# Altium schematic symbol library con-molex-mini-fit.SCHLIB: 168 symbols (part 2 of 4)
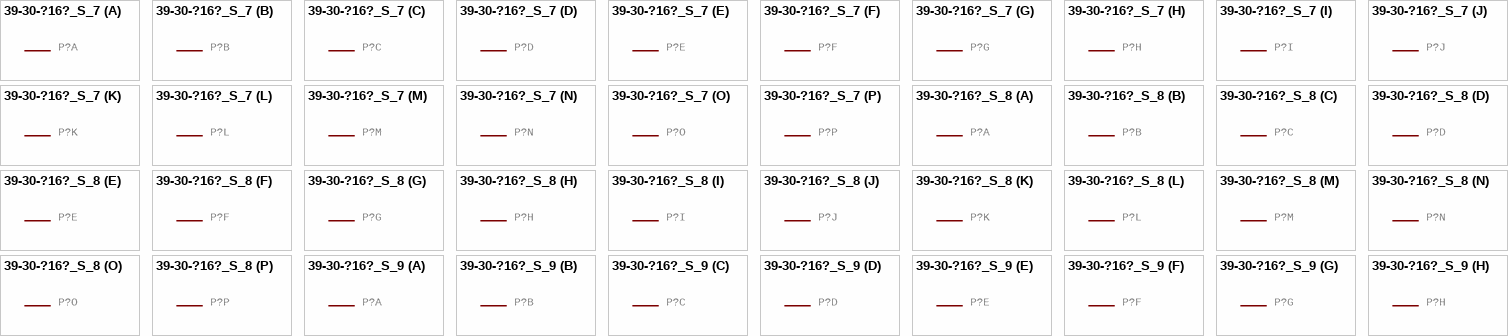
[diagram p66: symbols 39-30-?16?_S_7 to 39-30-?16?_S_9]

## 39-30-?16?_S_7
designator P?, comment HEADER  (value not drawn)
GateName_1: -1; SymbolName_1: P-NV; GateName_2: -2; SymbolName_2: P-N; GateName_3: -3; GateName_4: -4; GateName_5: -5; GateName_6: -6; GateName_7: -7; GateName_8: -8; GateName_9: -9; GateName_10: -10; GateName_11: -11; GateName_12: -12; GateName_13: -13; GateName_14: -14; GateName_15: -15; GateName_16: -16; DeviceSetName: 39-30-?16?_S; SymbolName_3: P-N; SymbolName_4: P-N; SymbolName_5: P-N; SymbolName_6: P-N; SymbolName_7: P-N; SymbolName_8: P-N; SymbolName_9: P-N; SymbolName_10: P-N; SymbolName_11: P-N; SymbolName_12: P-N; SymbolName_13: P-N; SymbolName_14: P-N; SymbolName_15: P-N; SymbolName_16: P-N; LibraryName: con-molex-mini-fit; Package: 39-30-?16?
footprint 39-30-?16?
part A pins: 1 P
part B pins: 2 P
part C pins: 3 P
part D pins: 4 P
part E pins: 5 P
part F pins: 6 P
part G pins: 7 P
part H pins: 8 P
part I pins: 9 P
part J pins: 10 P
part K pins: 11 P
part L pins: 12 P
part M pins: 13 P
part N pins: 14 P
part O pins: 15 P
part P pins: 16 P

## 39-30-?16?_S_8
designator P?, comment HEADER  (value not drawn)
GateName_1: -1; SymbolName_1: P-NV; GateName_2: -2; SymbolName_2: P-N; GateName_3: -3; GateName_4: -4; GateName_5: -5; GateName_6: -6; GateName_7: -7; GateName_8: -8; GateName_9: -9; GateName_10: -10; GateName_11: -11; GateName_12: -12; GateName_13: -13; GateName_14: -14; GateName_15: -15; GateName_16: -16; DeviceSetName: 39-30-?16?_S; SymbolName_3: P-N; SymbolName_4: P-N; SymbolName_5: P-N; SymbolName_6: P-N; SymbolName_7: P-N; SymbolName_8: P-N; SymbolName_9: P-N; SymbolName_10: P-N; SymbolName_11: P-N; SymbolName_12: P-N; SymbolName_13: P-N; SymbolName_14: P-N; SymbolName_15: P-N; SymbolName_16: P-N; LibraryName: con-molex-mini-fit; Package: 39-30-?16?
footprint 39-30-?16?
part A pins: 1 P
part B pins: 2 P
part C pins: 3 P
part D pins: 4 P
part E pins: 5 P
part F pins: 6 P
part G pins: 7 P
part H pins: 8 P
part I pins: 9 P
part J pins: 10 P
part K pins: 11 P
part L pins: 12 P
part M pins: 13 P
part N pins: 14 P
part O pins: 15 P
part P pins: 16 P

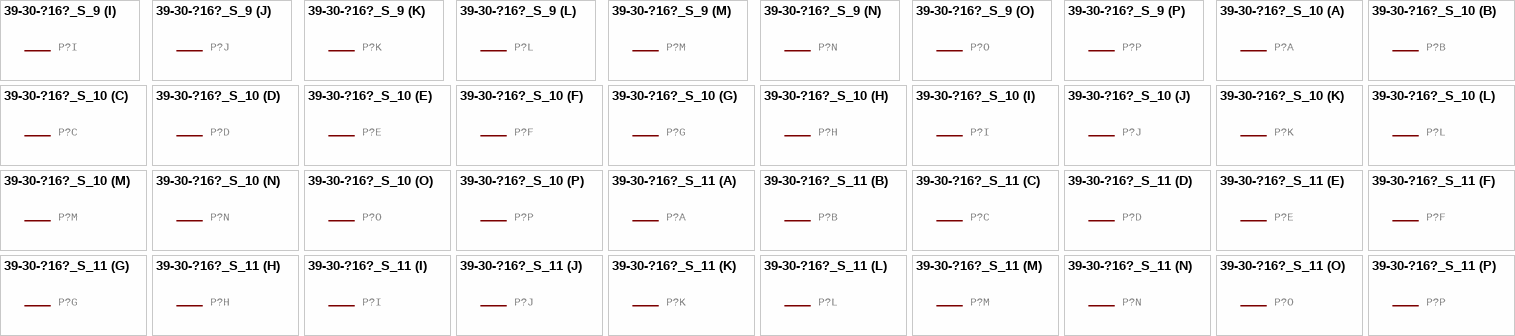
[diagram p18: symbols 39-30-?16?_S_9 to 39-30-?16?_S_11]

## 39-30-?16?_S_9
designator P?, comment HEADER  (value not drawn)
GateName_1: -1; SymbolName_1: P-NV; GateName_2: -2; SymbolName_2: P-N; GateName_3: -3; GateName_4: -4; GateName_5: -5; GateName_6: -6; GateName_7: -7; GateName_8: -8; GateName_9: -9; GateName_10: -10; GateName_11: -11; GateName_12: -12; GateName_13: -13; GateName_14: -14; GateName_15: -15; GateName_16: -16; DeviceSetName: 39-30-?16?_S; SymbolName_3: P-N; SymbolName_4: P-N; SymbolName_5: P-N; SymbolName_6: P-N; SymbolName_7: P-N; SymbolName_8: P-N; SymbolName_9: P-N; SymbolName_10: P-N; SymbolName_11: P-N; SymbolName_12: P-N; SymbolName_13: P-N; SymbolName_14: P-N; SymbolName_15: P-N; SymbolName_16: P-N; LibraryName: con-molex-mini-fit; Package: 39-30-?16?
footprint 39-30-?16?
part A pins: 1 P
part B pins: 2 P
part C pins: 3 P
part D pins: 4 P
part E pins: 5 P
part F pins: 6 P
part G pins: 7 P
part H pins: 8 P
part I pins: 9 P
part J pins: 10 P
part K pins: 11 P
part L pins: 12 P
part M pins: 13 P
part N pins: 14 P
part O pins: 15 P
part P pins: 16 P

## 39-30-?16?_S_10
designator P?, comment HEADER  (value not drawn)
GateName_1: -1; SymbolName_1: P-NV; GateName_2: -2; SymbolName_2: P-N; GateName_3: -3; GateName_4: -4; GateName_5: -5; GateName_6: -6; GateName_7: -7; GateName_8: -8; GateName_9: -9; GateName_10: -10; GateName_11: -11; GateName_12: -12; GateName_13: -13; GateName_14: -14; GateName_15: -15; GateName_16: -16; DeviceSetName: 39-30-?16?_S; SymbolName_3: P-N; SymbolName_4: P-N; SymbolName_5: P-N; SymbolName_6: P-N; SymbolName_7: P-N; SymbolName_8: P-N; SymbolName_9: P-N; SymbolName_10: P-N; SymbolName_11: P-N; SymbolName_12: P-N; SymbolName_13: P-N; SymbolName_14: P-N; SymbolName_15: P-N; SymbolName_16: P-N; LibraryName: con-molex-mini-fit; Package: 39-30-?16?
footprint 39-30-?16?
part A pins: 1 P
part B pins: 2 P
part C pins: 3 P
part D pins: 4 P
part E pins: 5 P
part F pins: 6 P
part G pins: 7 P
part H pins: 8 P
part I pins: 9 P
part J pins: 10 P
part K pins: 11 P
part L pins: 12 P
part M pins: 13 P
part N pins: 14 P
part O pins: 15 P
part P pins: 16 P

## 39-30-?16?_S_11
designator P?, comment HEADER  (value not drawn)
GateName_1: -1; SymbolName_1: P-NV; GateName_2: -2; SymbolName_2: P-N; GateName_3: -3; GateName_4: -4; GateName_5: -5; GateName_6: -6; GateName_7: -7; GateName_8: -8; GateName_9: -9; GateName_10: -10; GateName_11: -11; GateName_12: -12; GateName_13: -13; GateName_14: -14; GateName_15: -15; GateName_16: -16; DeviceSetName: 39-30-?16?_S; SymbolName_3: P-N; SymbolName_4: P-N; SymbolName_5: P-N; SymbolName_6: P-N; SymbolName_7: P-N; SymbolName_8: P-N; SymbolName_9: P-N; SymbolName_10: P-N; SymbolName_11: P-N; SymbolName_12: P-N; SymbolName_13: P-N; SymbolName_14: P-N; SymbolName_15: P-N; SymbolName_16: P-N; LibraryName: con-molex-mini-fit; Package: 39-30-?16?
footprint 39-30-?16?
part A pins: 1 P
part B pins: 2 P
part C pins: 3 P
part D pins: 4 P
part E pins: 5 P
part F pins: 6 P
part G pins: 7 P
part H pins: 8 P
part I pins: 9 P
part J pins: 10 P
part K pins: 11 P
part L pins: 12 P
part M pins: 13 P
part N pins: 14 P
part O pins: 15 P
part P pins: 16 P

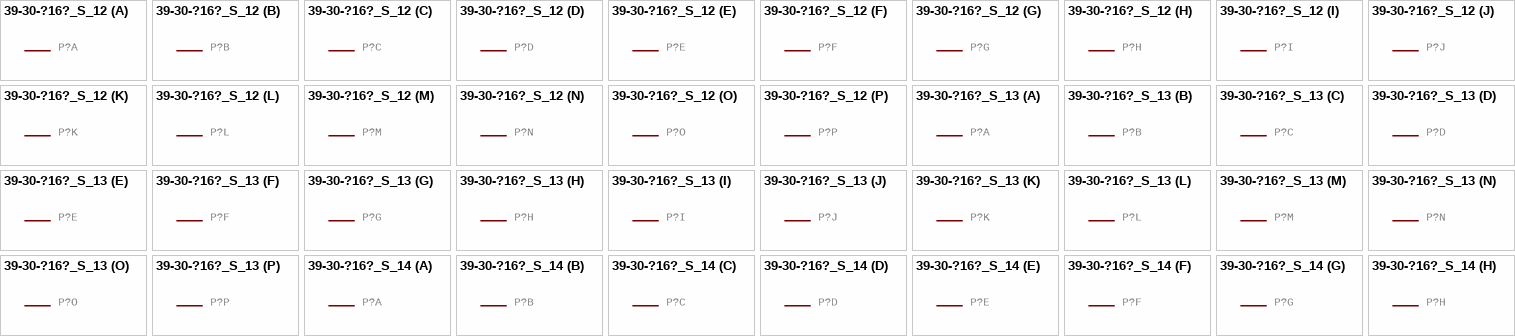
[diagram p19: symbols 39-30-?16?_S_12 to 39-30-?16?_S_14]

## 39-30-?16?_S_12
designator P?, comment HEADER  (value not drawn)
GateName_1: -1; SymbolName_1: P-NV; GateName_2: -2; SymbolName_2: P-N; GateName_3: -3; GateName_4: -4; GateName_5: -5; GateName_6: -6; GateName_7: -7; GateName_8: -8; GateName_9: -9; GateName_10: -10; GateName_11: -11; GateName_12: -12; GateName_13: -13; GateName_14: -14; GateName_15: -15; GateName_16: -16; DeviceSetName: 39-30-?16?_S; SymbolName_3: P-N; SymbolName_4: P-N; SymbolName_5: P-N; SymbolName_6: P-N; SymbolName_7: P-N; SymbolName_8: P-N; SymbolName_9: P-N; SymbolName_10: P-N; SymbolName_11: P-N; SymbolName_12: P-N; SymbolName_13: P-N; SymbolName_14: P-N; SymbolName_15: P-N; SymbolName_16: P-N; LibraryName: con-molex-mini-fit; Package: 39-30-?16?
footprint 39-30-?16?
part A pins: 1 P
part B pins: 2 P
part C pins: 3 P
part D pins: 4 P
part E pins: 5 P
part F pins: 6 P
part G pins: 7 P
part H pins: 8 P
part I pins: 9 P
part J pins: 10 P
part K pins: 11 P
part L pins: 12 P
part M pins: 13 P
part N pins: 14 P
part O pins: 15 P
part P pins: 16 P

## 39-30-?16?_S_13
designator P?, comment HEADER  (value not drawn)
GateName_1: -1; SymbolName_1: P-NV; GateName_2: -2; SymbolName_2: P-N; GateName_3: -3; GateName_4: -4; GateName_5: -5; GateName_6: -6; GateName_7: -7; GateName_8: -8; GateName_9: -9; GateName_10: -10; GateName_11: -11; GateName_12: -12; GateName_13: -13; GateName_14: -14; GateName_15: -15; GateName_16: -16; DeviceSetName: 39-30-?16?_S; SymbolName_3: P-N; SymbolName_4: P-N; SymbolName_5: P-N; SymbolName_6: P-N; SymbolName_7: P-N; SymbolName_8: P-N; SymbolName_9: P-N; SymbolName_10: P-N; SymbolName_11: P-N; SymbolName_12: P-N; SymbolName_13: P-N; SymbolName_14: P-N; SymbolName_15: P-N; SymbolName_16: P-N; LibraryName: con-molex-mini-fit; Package: 39-30-?16?
footprint 39-30-?16?
part A pins: 1 P
part B pins: 2 P
part C pins: 3 P
part D pins: 4 P
part E pins: 5 P
part F pins: 6 P
part G pins: 7 P
part H pins: 8 P
part I pins: 9 P
part J pins: 10 P
part K pins: 11 P
part L pins: 12 P
part M pins: 13 P
part N pins: 14 P
part O pins: 15 P
part P pins: 16 P

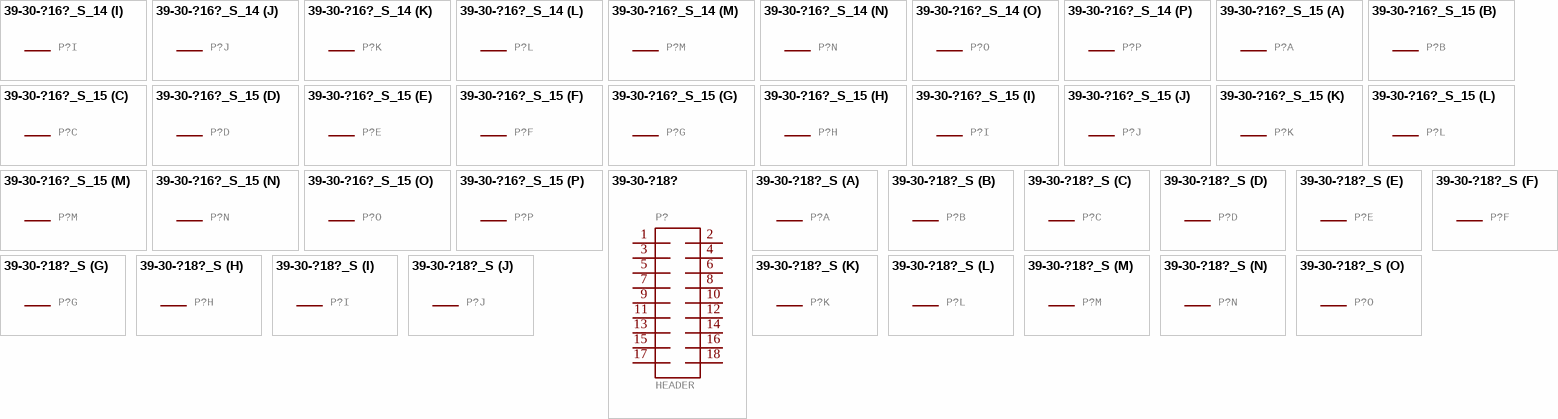
[diagram p20: symbols 39-30-?16?_S_14 to 39-30-?18?_S]

## 39-30-?16?_S_14
designator P?, comment HEADER  (value not drawn)
GateName_1: -1; SymbolName_1: P-NV; GateName_2: -2; SymbolName_2: P-N; GateName_3: -3; GateName_4: -4; GateName_5: -5; GateName_6: -6; GateName_7: -7; GateName_8: -8; GateName_9: -9; GateName_10: -10; GateName_11: -11; GateName_12: -12; GateName_13: -13; GateName_14: -14; GateName_15: -15; GateName_16: -16; DeviceSetName: 39-30-?16?_S; SymbolName_3: P-N; SymbolName_4: P-N; SymbolName_5: P-N; SymbolName_6: P-N; SymbolName_7: P-N; SymbolName_8: P-N; SymbolName_9: P-N; SymbolName_10: P-N; SymbolName_11: P-N; SymbolName_12: P-N; SymbolName_13: P-N; SymbolName_14: P-N; SymbolName_15: P-N; SymbolName_16: P-N; LibraryName: con-molex-mini-fit; Package: 39-30-?16?
footprint 39-30-?16?
part A pins: 1 P
part B pins: 2 P
part C pins: 3 P
part D pins: 4 P
part E pins: 5 P
part F pins: 6 P
part G pins: 7 P
part H pins: 8 P
part I pins: 9 P
part J pins: 10 P
part K pins: 11 P
part L pins: 12 P
part M pins: 13 P
part N pins: 14 P
part O pins: 15 P
part P pins: 16 P

## 39-30-?16?_S_15
designator P?, comment HEADER  (value not drawn)
GateName_1: -1; SymbolName_1: P-NV; GateName_2: -2; SymbolName_2: P-N; GateName_3: -3; GateName_4: -4; GateName_5: -5; GateName_6: -6; GateName_7: -7; GateName_8: -8; GateName_9: -9; GateName_10: -10; GateName_11: -11; GateName_12: -12; GateName_13: -13; GateName_14: -14; GateName_15: -15; GateName_16: -16; DeviceSetName: 39-30-?16?_S; SymbolName_3: P-N; SymbolName_4: P-N; SymbolName_5: P-N; SymbolName_6: P-N; SymbolName_7: P-N; SymbolName_8: P-N; SymbolName_9: P-N; SymbolName_10: P-N; SymbolName_11: P-N; SymbolName_12: P-N; SymbolName_13: P-N; SymbolName_14: P-N; SymbolName_15: P-N; SymbolName_16: P-N; LibraryName: con-molex-mini-fit; Package: 39-30-?16?
footprint 39-30-?16?
part A pins: 1 P
part B pins: 2 P
part C pins: 3 P
part D pins: 4 P
part E pins: 5 P
part F pins: 6 P
part G pins: 7 P
part H pins: 8 P
part I pins: 9 P
part J pins: 10 P
part K pins: 11 P
part L pins: 12 P
part M pins: 13 P
part N pins: 14 P
part O pins: 15 P
part P pins: 16 P

## 39-30-?18?
designator P?, comment HEADER
GateName_1: G$1; SymbolName_1: MA09-2; DeviceSetName: 39-30-?18?; LibraryName: con-molex-mini-fit; Package: 39-30-?18?
footprint 39-30-?18?
pins: 1, 2, 3, 4, 5, 6, 7, 8, 9, 10, 11, 12, 13, 14, 15, 16, 17, 18

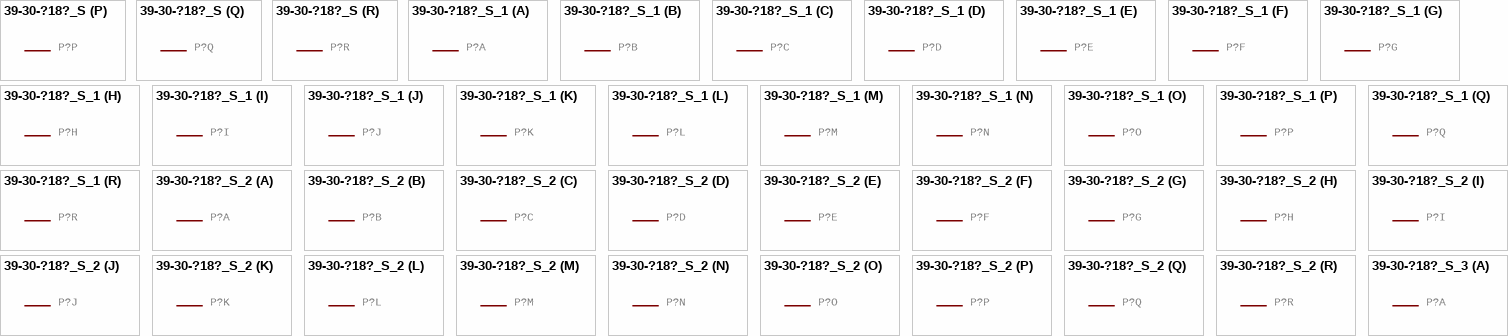
[diagram p21: symbols 39-30-?18?_S to 39-30-?18?_S_3]

## 39-30-?18?_S
designator P?, comment HEADER  (value not drawn)
GateName_1: -1; SymbolName_1: P-NV; GateName_2: -2; SymbolName_2: P-N; GateName_3: -3; GateName_4: -4; GateName_5: -5; GateName_6: -6; GateName_7: -7; GateName_8: -8; GateName_9: -9; GateName_10: -10; GateName_11: -11; GateName_12: -12; GateName_13: -13; GateName_14: -14; GateName_15: -15; GateName_16: -16; GateName_17: -17; GateName_18: -18; DeviceSetName: 39-30-?18?_S; SymbolName_3: P-N; SymbolName_4: P-N; SymbolName_5: P-N; SymbolName_6: P-N; SymbolName_7: P-N; SymbolName_8: P-N; SymbolName_9: P-N; SymbolName_10: P-N; SymbolName_11: P-N; SymbolName_12: P-N; SymbolName_13: P-N; SymbolName_14: P-N; SymbolName_15: P-N; SymbolName_16: P-N; SymbolName_17: P-N; SymbolName_18: P-N; LibraryName: con-molex-mini-fit; Package: 39-30-?18?
footprint 39-30-?18?
part A pins: 1 P
part B pins: 2 P
part C pins: 3 P
part D pins: 4 P
part E pins: 5 P
part F pins: 6 P
part G pins: 7 P
part H pins: 8 P
part I pins: 9 P
part J pins: 10 P
part K pins: 11 P
part L pins: 12 P
part M pins: 13 P
part N pins: 14 P
part O pins: 15 P
part P pins: 16 P
part Q pins: 17 P
part R pins: 18 P

## 39-30-?18?_S_1
designator P?, comment HEADER  (value not drawn)
GateName_1: -1; SymbolName_1: P-NV; GateName_2: -2; SymbolName_2: P-N; GateName_3: -3; GateName_4: -4; GateName_5: -5; GateName_6: -6; GateName_7: -7; GateName_8: -8; GateName_9: -9; GateName_10: -10; GateName_11: -11; GateName_12: -12; GateName_13: -13; GateName_14: -14; GateName_15: -15; GateName_16: -16; GateName_17: -17; GateName_18: -18; DeviceSetName: 39-30-?18?_S; SymbolName_3: P-N; SymbolName_4: P-N; SymbolName_5: P-N; SymbolName_6: P-N; SymbolName_7: P-N; SymbolName_8: P-N; SymbolName_9: P-N; SymbolName_10: P-N; SymbolName_11: P-N; SymbolName_12: P-N; SymbolName_13: P-N; SymbolName_14: P-N; SymbolName_15: P-N; SymbolName_16: P-N; SymbolName_17: P-N; SymbolName_18: P-N; LibraryName: con-molex-mini-fit; Package: 39-30-?18?
footprint 39-30-?18?
part A pins: 1 P
part B pins: 2 P
part C pins: 3 P
part D pins: 4 P
part E pins: 5 P
part F pins: 6 P
part G pins: 7 P
part H pins: 8 P
part I pins: 9 P
part J pins: 10 P
part K pins: 11 P
part L pins: 12 P
part M pins: 13 P
part N pins: 14 P
part O pins: 15 P
part P pins: 16 P
part Q pins: 17 P
part R pins: 18 P

## 39-30-?18?_S_2
designator P?, comment HEADER  (value not drawn)
GateName_1: -1; SymbolName_1: P-NV; GateName_2: -2; SymbolName_2: P-N; GateName_3: -3; GateName_4: -4; GateName_5: -5; GateName_6: -6; GateName_7: -7; GateName_8: -8; GateName_9: -9; GateName_10: -10; GateName_11: -11; GateName_12: -12; GateName_13: -13; GateName_14: -14; GateName_15: -15; GateName_16: -16; GateName_17: -17; GateName_18: -18; DeviceSetName: 39-30-?18?_S; SymbolName_3: P-N; SymbolName_4: P-N; SymbolName_5: P-N; SymbolName_6: P-N; SymbolName_7: P-N; SymbolName_8: P-N; SymbolName_9: P-N; SymbolName_10: P-N; SymbolName_11: P-N; SymbolName_12: P-N; SymbolName_13: P-N; SymbolName_14: P-N; SymbolName_15: P-N; SymbolName_16: P-N; SymbolName_17: P-N; SymbolName_18: P-N; LibraryName: con-molex-mini-fit; Package: 39-30-?18?
footprint 39-30-?18?
part A pins: 1 P
part B pins: 2 P
part C pins: 3 P
part D pins: 4 P
part E pins: 5 P
part F pins: 6 P
part G pins: 7 P
part H pins: 8 P
part I pins: 9 P
part J pins: 10 P
part K pins: 11 P
part L pins: 12 P
part M pins: 13 P
part N pins: 14 P
part O pins: 15 P
part P pins: 16 P
part Q pins: 17 P
part R pins: 18 P

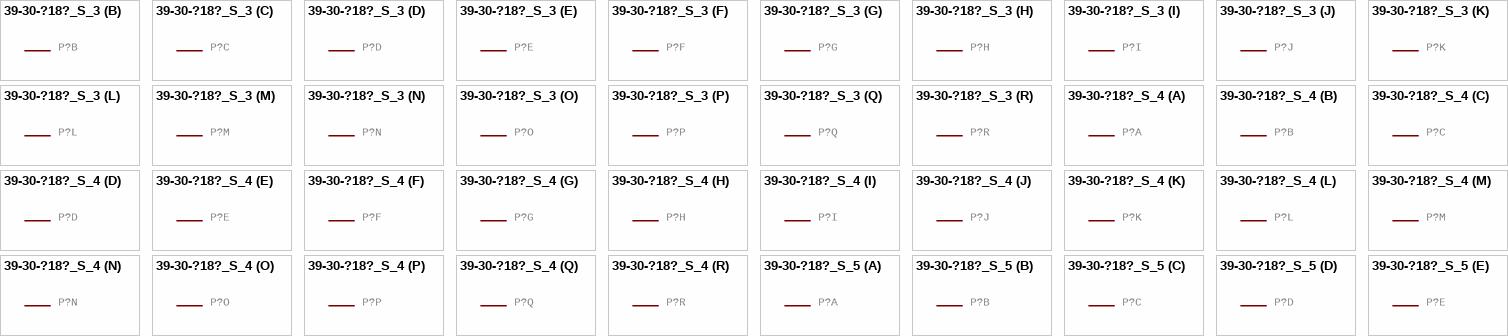
[diagram p22: symbols 39-30-?18?_S_3 to 39-30-?18?_S_5]

## 39-30-?18?_S_3
designator P?, comment HEADER  (value not drawn)
GateName_1: -1; SymbolName_1: P-NV; GateName_2: -2; SymbolName_2: P-N; GateName_3: -3; GateName_4: -4; GateName_5: -5; GateName_6: -6; GateName_7: -7; GateName_8: -8; GateName_9: -9; GateName_10: -10; GateName_11: -11; GateName_12: -12; GateName_13: -13; GateName_14: -14; GateName_15: -15; GateName_16: -16; GateName_17: -17; GateName_18: -18; DeviceSetName: 39-30-?18?_S; SymbolName_3: P-N; SymbolName_4: P-N; SymbolName_5: P-N; SymbolName_6: P-N; SymbolName_7: P-N; SymbolName_8: P-N; SymbolName_9: P-N; SymbolName_10: P-N; SymbolName_11: P-N; SymbolName_12: P-N; SymbolName_13: P-N; SymbolName_14: P-N; SymbolName_15: P-N; SymbolName_16: P-N; SymbolName_17: P-N; SymbolName_18: P-N; LibraryName: con-molex-mini-fit; Package: 39-30-?18?
footprint 39-30-?18?
part A pins: 1 P
part B pins: 2 P
part C pins: 3 P
part D pins: 4 P
part E pins: 5 P
part F pins: 6 P
part G pins: 7 P
part H pins: 8 P
part I pins: 9 P
part J pins: 10 P
part K pins: 11 P
part L pins: 12 P
part M pins: 13 P
part N pins: 14 P
part O pins: 15 P
part P pins: 16 P
part Q pins: 17 P
part R pins: 18 P

## 39-30-?18?_S_4
designator P?, comment HEADER  (value not drawn)
GateName_1: -1; SymbolName_1: P-NV; GateName_2: -2; SymbolName_2: P-N; GateName_3: -3; GateName_4: -4; GateName_5: -5; GateName_6: -6; GateName_7: -7; GateName_8: -8; GateName_9: -9; GateName_10: -10; GateName_11: -11; GateName_12: -12; GateName_13: -13; GateName_14: -14; GateName_15: -15; GateName_16: -16; GateName_17: -17; GateName_18: -18; DeviceSetName: 39-30-?18?_S; SymbolName_3: P-N; SymbolName_4: P-N; SymbolName_5: P-N; SymbolName_6: P-N; SymbolName_7: P-N; SymbolName_8: P-N; SymbolName_9: P-N; SymbolName_10: P-N; SymbolName_11: P-N; SymbolName_12: P-N; SymbolName_13: P-N; SymbolName_14: P-N; SymbolName_15: P-N; SymbolName_16: P-N; SymbolName_17: P-N; SymbolName_18: P-N; LibraryName: con-molex-mini-fit; Package: 39-30-?18?
footprint 39-30-?18?
part A pins: 1 P
part B pins: 2 P
part C pins: 3 P
part D pins: 4 P
part E pins: 5 P
part F pins: 6 P
part G pins: 7 P
part H pins: 8 P
part I pins: 9 P
part J pins: 10 P
part K pins: 11 P
part L pins: 12 P
part M pins: 13 P
part N pins: 14 P
part O pins: 15 P
part P pins: 16 P
part Q pins: 17 P
part R pins: 18 P

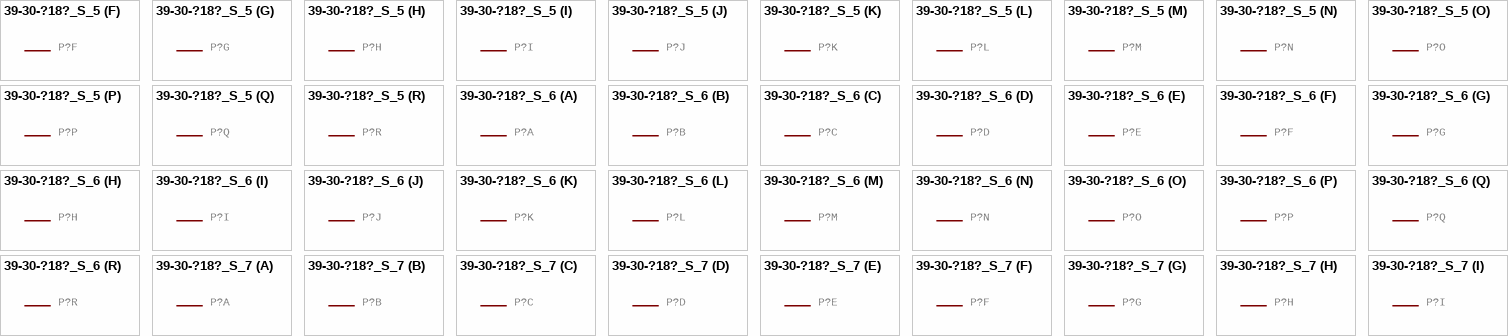
[diagram p23: symbols 39-30-?18?_S_5 to 39-30-?18?_S_7]

## 39-30-?18?_S_5
designator P?, comment HEADER  (value not drawn)
GateName_1: -1; SymbolName_1: P-NV; GateName_2: -2; SymbolName_2: P-N; GateName_3: -3; GateName_4: -4; GateName_5: -5; GateName_6: -6; GateName_7: -7; GateName_8: -8; GateName_9: -9; GateName_10: -10; GateName_11: -11; GateName_12: -12; GateName_13: -13; GateName_14: -14; GateName_15: -15; GateName_16: -16; GateName_17: -17; GateName_18: -18; DeviceSetName: 39-30-?18?_S; SymbolName_3: P-N; SymbolName_4: P-N; SymbolName_5: P-N; SymbolName_6: P-N; SymbolName_7: P-N; SymbolName_8: P-N; SymbolName_9: P-N; SymbolName_10: P-N; SymbolName_11: P-N; SymbolName_12: P-N; SymbolName_13: P-N; SymbolName_14: P-N; SymbolName_15: P-N; SymbolName_16: P-N; SymbolName_17: P-N; SymbolName_18: P-N; LibraryName: con-molex-mini-fit; Package: 39-30-?18?
footprint 39-30-?18?
part A pins: 1 P
part B pins: 2 P
part C pins: 3 P
part D pins: 4 P
part E pins: 5 P
part F pins: 6 P
part G pins: 7 P
part H pins: 8 P
part I pins: 9 P
part J pins: 10 P
part K pins: 11 P
part L pins: 12 P
part M pins: 13 P
part N pins: 14 P
part O pins: 15 P
part P pins: 16 P
part Q pins: 17 P
part R pins: 18 P

## 39-30-?18?_S_6
designator P?, comment HEADER  (value not drawn)
GateName_1: -1; SymbolName_1: P-NV; GateName_2: -2; SymbolName_2: P-N; GateName_3: -3; GateName_4: -4; GateName_5: -5; GateName_6: -6; GateName_7: -7; GateName_8: -8; GateName_9: -9; GateName_10: -10; GateName_11: -11; GateName_12: -12; GateName_13: -13; GateName_14: -14; GateName_15: -15; GateName_16: -16; GateName_17: -17; GateName_18: -18; DeviceSetName: 39-30-?18?_S; SymbolName_3: P-N; SymbolName_4: P-N; SymbolName_5: P-N; SymbolName_6: P-N; SymbolName_7: P-N; SymbolName_8: P-N; SymbolName_9: P-N; SymbolName_10: P-N; SymbolName_11: P-N; SymbolName_12: P-N; SymbolName_13: P-N; SymbolName_14: P-N; SymbolName_15: P-N; SymbolName_16: P-N; SymbolName_17: P-N; SymbolName_18: P-N; LibraryName: con-molex-mini-fit; Package: 39-30-?18?
footprint 39-30-?18?
part A pins: 1 P
part B pins: 2 P
part C pins: 3 P
part D pins: 4 P
part E pins: 5 P
part F pins: 6 P
part G pins: 7 P
part H pins: 8 P
part I pins: 9 P
part J pins: 10 P
part K pins: 11 P
part L pins: 12 P
part M pins: 13 P
part N pins: 14 P
part O pins: 15 P
part P pins: 16 P
part Q pins: 17 P
part R pins: 18 P

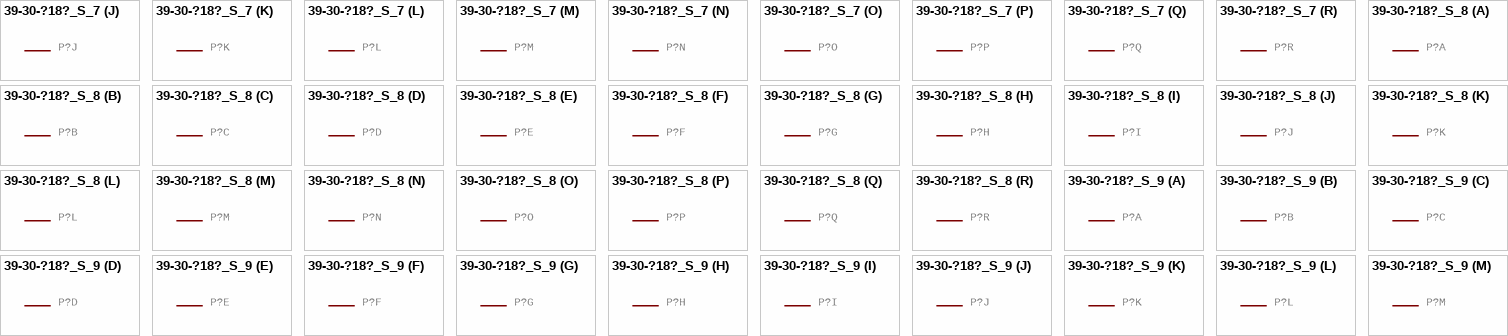
[diagram p24: symbols 39-30-?18?_S_7 to 39-30-?18?_S_9]

## 39-30-?18?_S_7
designator P?, comment HEADER  (value not drawn)
GateName_1: -1; SymbolName_1: P-NV; GateName_2: -2; SymbolName_2: P-N; GateName_3: -3; GateName_4: -4; GateName_5: -5; GateName_6: -6; GateName_7: -7; GateName_8: -8; GateName_9: -9; GateName_10: -10; GateName_11: -11; GateName_12: -12; GateName_13: -13; GateName_14: -14; GateName_15: -15; GateName_16: -16; GateName_17: -17; GateName_18: -18; DeviceSetName: 39-30-?18?_S; SymbolName_3: P-N; SymbolName_4: P-N; SymbolName_5: P-N; SymbolName_6: P-N; SymbolName_7: P-N; SymbolName_8: P-N; SymbolName_9: P-N; SymbolName_10: P-N; SymbolName_11: P-N; SymbolName_12: P-N; SymbolName_13: P-N; SymbolName_14: P-N; SymbolName_15: P-N; SymbolName_16: P-N; SymbolName_17: P-N; SymbolName_18: P-N; LibraryName: con-molex-mini-fit; Package: 39-30-?18?
footprint 39-30-?18?
part A pins: 1 P
part B pins: 2 P
part C pins: 3 P
part D pins: 4 P
part E pins: 5 P
part F pins: 6 P
part G pins: 7 P
part H pins: 8 P
part I pins: 9 P
part J pins: 10 P
part K pins: 11 P
part L pins: 12 P
part M pins: 13 P
part N pins: 14 P
part O pins: 15 P
part P pins: 16 P
part Q pins: 17 P
part R pins: 18 P

## 39-30-?18?_S_8
designator P?, comment HEADER  (value not drawn)
GateName_1: -1; SymbolName_1: P-NV; GateName_2: -2; SymbolName_2: P-N; GateName_3: -3; GateName_4: -4; GateName_5: -5; GateName_6: -6; GateName_7: -7; GateName_8: -8; GateName_9: -9; GateName_10: -10; GateName_11: -11; GateName_12: -12; GateName_13: -13; GateName_14: -14; GateName_15: -15; GateName_16: -16; GateName_17: -17; GateName_18: -18; DeviceSetName: 39-30-?18?_S; SymbolName_3: P-N; SymbolName_4: P-N; SymbolName_5: P-N; SymbolName_6: P-N; SymbolName_7: P-N; SymbolName_8: P-N; SymbolName_9: P-N; SymbolName_10: P-N; SymbolName_11: P-N; SymbolName_12: P-N; SymbolName_13: P-N; SymbolName_14: P-N; SymbolName_15: P-N; SymbolName_16: P-N; SymbolName_17: P-N; SymbolName_18: P-N; LibraryName: con-molex-mini-fit; Package: 39-30-?18?
footprint 39-30-?18?
part A pins: 1 P
part B pins: 2 P
part C pins: 3 P
part D pins: 4 P
part E pins: 5 P
part F pins: 6 P
part G pins: 7 P
part H pins: 8 P
part I pins: 9 P
part J pins: 10 P
part K pins: 11 P
part L pins: 12 P
part M pins: 13 P
part N pins: 14 P
part O pins: 15 P
part P pins: 16 P
part Q pins: 17 P
part R pins: 18 P

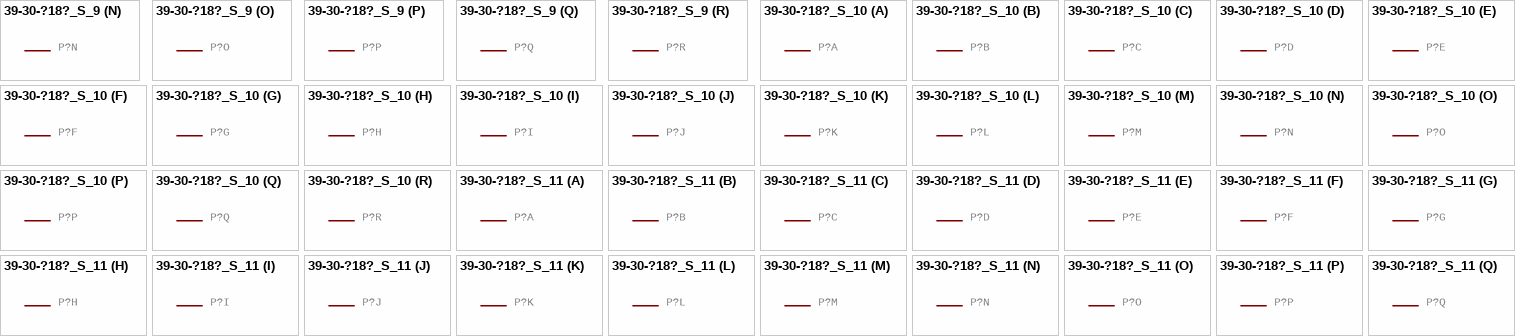
[diagram p25: symbols 39-30-?18?_S_9 to 39-30-?18?_S_11]

## 39-30-?18?_S_9
designator P?, comment HEADER  (value not drawn)
GateName_1: -1; SymbolName_1: P-NV; GateName_2: -2; SymbolName_2: P-N; GateName_3: -3; GateName_4: -4; GateName_5: -5; GateName_6: -6; GateName_7: -7; GateName_8: -8; GateName_9: -9; GateName_10: -10; GateName_11: -11; GateName_12: -12; GateName_13: -13; GateName_14: -14; GateName_15: -15; GateName_16: -16; GateName_17: -17; GateName_18: -18; DeviceSetName: 39-30-?18?_S; SymbolName_3: P-N; SymbolName_4: P-N; SymbolName_5: P-N; SymbolName_6: P-N; SymbolName_7: P-N; SymbolName_8: P-N; SymbolName_9: P-N; SymbolName_10: P-N; SymbolName_11: P-N; SymbolName_12: P-N; SymbolName_13: P-N; SymbolName_14: P-N; SymbolName_15: P-N; SymbolName_16: P-N; SymbolName_17: P-N; SymbolName_18: P-N; LibraryName: con-molex-mini-fit; Package: 39-30-?18?
footprint 39-30-?18?
part A pins: 1 P
part B pins: 2 P
part C pins: 3 P
part D pins: 4 P
part E pins: 5 P
part F pins: 6 P
part G pins: 7 P
part H pins: 8 P
part I pins: 9 P
part J pins: 10 P
part K pins: 11 P
part L pins: 12 P
part M pins: 13 P
part N pins: 14 P
part O pins: 15 P
part P pins: 16 P
part Q pins: 17 P
part R pins: 18 P

## 39-30-?18?_S_10
designator P?, comment HEADER  (value not drawn)
GateName_1: -1; SymbolName_1: P-NV; GateName_2: -2; SymbolName_2: P-N; GateName_3: -3; GateName_4: -4; GateName_5: -5; GateName_6: -6; GateName_7: -7; GateName_8: -8; GateName_9: -9; GateName_10: -10; GateName_11: -11; GateName_12: -12; GateName_13: -13; GateName_14: -14; GateName_15: -15; GateName_16: -16; GateName_17: -17; GateName_18: -18; DeviceSetName: 39-30-?18?_S; SymbolName_3: P-N; SymbolName_4: P-N; SymbolName_5: P-N; SymbolName_6: P-N; SymbolName_7: P-N; SymbolName_8: P-N; SymbolName_9: P-N; SymbolName_10: P-N; SymbolName_11: P-N; SymbolName_12: P-N; SymbolName_13: P-N; SymbolName_14: P-N; SymbolName_15: P-N; SymbolName_16: P-N; SymbolName_17: P-N; SymbolName_18: P-N; LibraryName: con-molex-mini-fit; Package: 39-30-?18?
footprint 39-30-?18?
part A pins: 1 P
part B pins: 2 P
part C pins: 3 P
part D pins: 4 P
part E pins: 5 P
part F pins: 6 P
part G pins: 7 P
part H pins: 8 P
part I pins: 9 P
part J pins: 10 P
part K pins: 11 P
part L pins: 12 P
part M pins: 13 P
part N pins: 14 P
part O pins: 15 P
part P pins: 16 P
part Q pins: 17 P
part R pins: 18 P

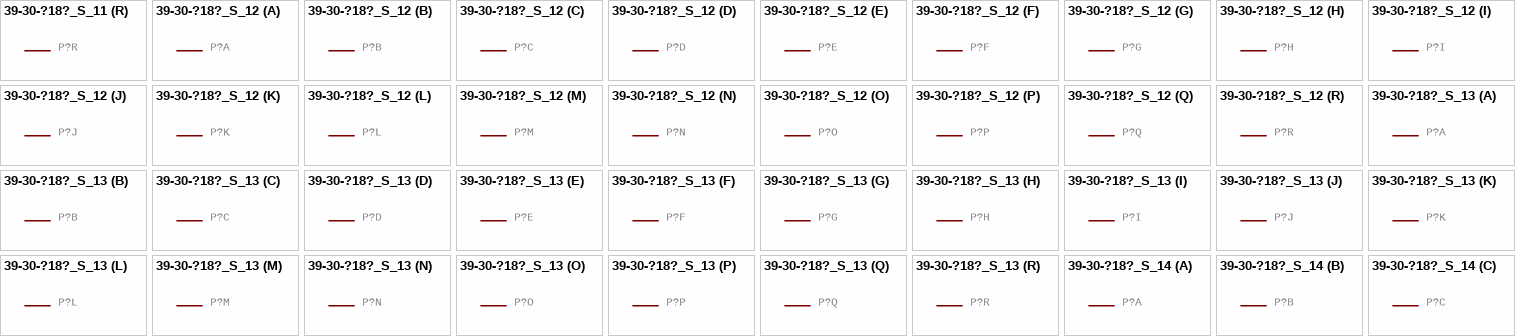
[diagram p26: symbols 39-30-?18?_S_11 to 39-30-?18?_S_14]

## 39-30-?18?_S_11
designator P?, comment HEADER  (value not drawn)
GateName_1: -1; SymbolName_1: P-NV; GateName_2: -2; SymbolName_2: P-N; GateName_3: -3; GateName_4: -4; GateName_5: -5; GateName_6: -6; GateName_7: -7; GateName_8: -8; GateName_9: -9; GateName_10: -10; GateName_11: -11; GateName_12: -12; GateName_13: -13; GateName_14: -14; GateName_15: -15; GateName_16: -16; GateName_17: -17; GateName_18: -18; DeviceSetName: 39-30-?18?_S; SymbolName_3: P-N; SymbolName_4: P-N; SymbolName_5: P-N; SymbolName_6: P-N; SymbolName_7: P-N; SymbolName_8: P-N; SymbolName_9: P-N; SymbolName_10: P-N; SymbolName_11: P-N; SymbolName_12: P-N; SymbolName_13: P-N; SymbolName_14: P-N; SymbolName_15: P-N; SymbolName_16: P-N; SymbolName_17: P-N; SymbolName_18: P-N; LibraryName: con-molex-mini-fit; Package: 39-30-?18?
footprint 39-30-?18?
part A pins: 1 P
part B pins: 2 P
part C pins: 3 P
part D pins: 4 P
part E pins: 5 P
part F pins: 6 P
part G pins: 7 P
part H pins: 8 P
part I pins: 9 P
part J pins: 10 P
part K pins: 11 P
part L pins: 12 P
part M pins: 13 P
part N pins: 14 P
part O pins: 15 P
part P pins: 16 P
part Q pins: 17 P
part R pins: 18 P

## 39-30-?18?_S_12
designator P?, comment HEADER  (value not drawn)
GateName_1: -1; SymbolName_1: P-NV; GateName_2: -2; SymbolName_2: P-N; GateName_3: -3; GateName_4: -4; GateName_5: -5; GateName_6: -6; GateName_7: -7; GateName_8: -8; GateName_9: -9; GateName_10: -10; GateName_11: -11; GateName_12: -12; GateName_13: -13; GateName_14: -14; GateName_15: -15; GateName_16: -16; GateName_17: -17; GateName_18: -18; DeviceSetName: 39-30-?18?_S; SymbolName_3: P-N; SymbolName_4: P-N; SymbolName_5: P-N; SymbolName_6: P-N; SymbolName_7: P-N; SymbolName_8: P-N; SymbolName_9: P-N; SymbolName_10: P-N; SymbolName_11: P-N; SymbolName_12: P-N; SymbolName_13: P-N; SymbolName_14: P-N; SymbolName_15: P-N; SymbolName_16: P-N; SymbolName_17: P-N; SymbolName_18: P-N; LibraryName: con-molex-mini-fit; Package: 39-30-?18?
footprint 39-30-?18?
part A pins: 1 P
part B pins: 2 P
part C pins: 3 P
part D pins: 4 P
part E pins: 5 P
part F pins: 6 P
part G pins: 7 P
part H pins: 8 P
part I pins: 9 P
part J pins: 10 P
part K pins: 11 P
part L pins: 12 P
part M pins: 13 P
part N pins: 14 P
part O pins: 15 P
part P pins: 16 P
part Q pins: 17 P
part R pins: 18 P

## 39-30-?18?_S_13
designator P?, comment HEADER  (value not drawn)
GateName_1: -1; SymbolName_1: P-NV; GateName_2: -2; SymbolName_2: P-N; GateName_3: -3; GateName_4: -4; GateName_5: -5; GateName_6: -6; GateName_7: -7; GateName_8: -8; GateName_9: -9; GateName_10: -10; GateName_11: -11; GateName_12: -12; GateName_13: -13; GateName_14: -14; GateName_15: -15; GateName_16: -16; GateName_17: -17; GateName_18: -18; DeviceSetName: 39-30-?18?_S; SymbolName_3: P-N; SymbolName_4: P-N; SymbolName_5: P-N; SymbolName_6: P-N; SymbolName_7: P-N; SymbolName_8: P-N; SymbolName_9: P-N; SymbolName_10: P-N; SymbolName_11: P-N; SymbolName_12: P-N; SymbolName_13: P-N; SymbolName_14: P-N; SymbolName_15: P-N; SymbolName_16: P-N; SymbolName_17: P-N; SymbolName_18: P-N; LibraryName: con-molex-mini-fit; Package: 39-30-?18?
footprint 39-30-?18?
part A pins: 1 P
part B pins: 2 P
part C pins: 3 P
part D pins: 4 P
part E pins: 5 P
part F pins: 6 P
part G pins: 7 P
part H pins: 8 P
part I pins: 9 P
part J pins: 10 P
part K pins: 11 P
part L pins: 12 P
part M pins: 13 P
part N pins: 14 P
part O pins: 15 P
part P pins: 16 P
part Q pins: 17 P
part R pins: 18 P

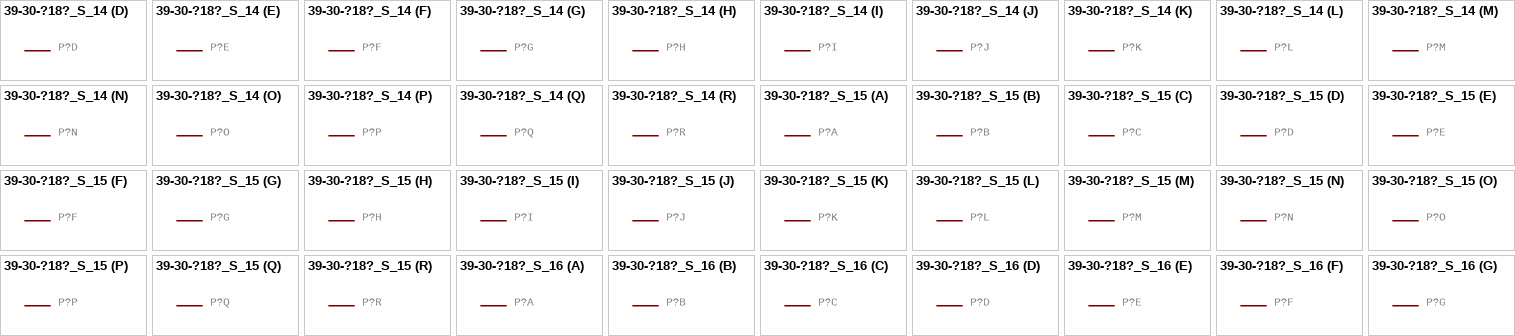
[diagram p27: symbols 39-30-?18?_S_14 to 39-30-?18?_S_16]

## 39-30-?18?_S_14
designator P?, comment HEADER  (value not drawn)
GateName_1: -1; SymbolName_1: P-NV; GateName_2: -2; SymbolName_2: P-N; GateName_3: -3; GateName_4: -4; GateName_5: -5; GateName_6: -6; GateName_7: -7; GateName_8: -8; GateName_9: -9; GateName_10: -10; GateName_11: -11; GateName_12: -12; GateName_13: -13; GateName_14: -14; GateName_15: -15; GateName_16: -16; GateName_17: -17; GateName_18: -18; DeviceSetName: 39-30-?18?_S; SymbolName_3: P-N; SymbolName_4: P-N; SymbolName_5: P-N; SymbolName_6: P-N; SymbolName_7: P-N; SymbolName_8: P-N; SymbolName_9: P-N; SymbolName_10: P-N; SymbolName_11: P-N; SymbolName_12: P-N; SymbolName_13: P-N; SymbolName_14: P-N; SymbolName_15: P-N; SymbolName_16: P-N; SymbolName_17: P-N; SymbolName_18: P-N; LibraryName: con-molex-mini-fit; Package: 39-30-?18?
footprint 39-30-?18?
part A pins: 1 P
part B pins: 2 P
part C pins: 3 P
part D pins: 4 P
part E pins: 5 P
part F pins: 6 P
part G pins: 7 P
part H pins: 8 P
part I pins: 9 P
part J pins: 10 P
part K pins: 11 P
part L pins: 12 P
part M pins: 13 P
part N pins: 14 P
part O pins: 15 P
part P pins: 16 P
part Q pins: 17 P
part R pins: 18 P

## 39-30-?18?_S_15
designator P?, comment HEADER  (value not drawn)
GateName_1: -1; SymbolName_1: P-NV; GateName_2: -2; SymbolName_2: P-N; GateName_3: -3; GateName_4: -4; GateName_5: -5; GateName_6: -6; GateName_7: -7; GateName_8: -8; GateName_9: -9; GateName_10: -10; GateName_11: -11; GateName_12: -12; GateName_13: -13; GateName_14: -14; GateName_15: -15; GateName_16: -16; GateName_17: -17; GateName_18: -18; DeviceSetName: 39-30-?18?_S; SymbolName_3: P-N; SymbolName_4: P-N; SymbolName_5: P-N; SymbolName_6: P-N; SymbolName_7: P-N; SymbolName_8: P-N; SymbolName_9: P-N; SymbolName_10: P-N; SymbolName_11: P-N; SymbolName_12: P-N; SymbolName_13: P-N; SymbolName_14: P-N; SymbolName_15: P-N; SymbolName_16: P-N; SymbolName_17: P-N; SymbolName_18: P-N; LibraryName: con-molex-mini-fit; Package: 39-30-?18?
footprint 39-30-?18?
part A pins: 1 P
part B pins: 2 P
part C pins: 3 P
part D pins: 4 P
part E pins: 5 P
part F pins: 6 P
part G pins: 7 P
part H pins: 8 P
part I pins: 9 P
part J pins: 10 P
part K pins: 11 P
part L pins: 12 P
part M pins: 13 P
part N pins: 14 P
part O pins: 15 P
part P pins: 16 P
part Q pins: 17 P
part R pins: 18 P

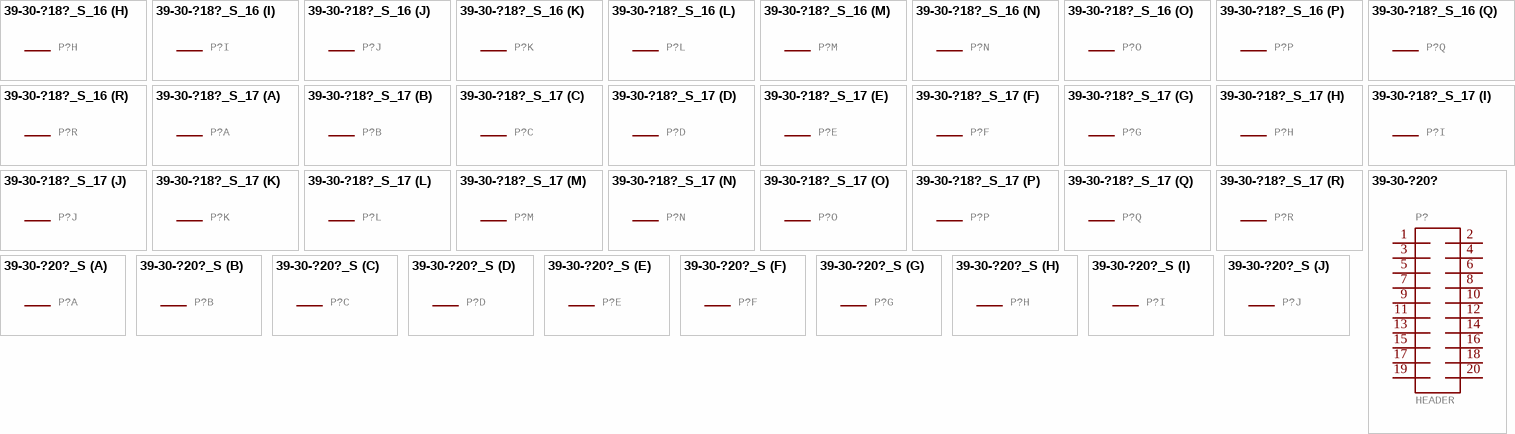
[diagram p28: symbols 39-30-?18?_S_16 to 39-30-?20?_S]

## 39-30-?18?_S_16
designator P?, comment HEADER  (value not drawn)
GateName_1: -1; SymbolName_1: P-NV; GateName_2: -2; SymbolName_2: P-N; GateName_3: -3; GateName_4: -4; GateName_5: -5; GateName_6: -6; GateName_7: -7; GateName_8: -8; GateName_9: -9; GateName_10: -10; GateName_11: -11; GateName_12: -12; GateName_13: -13; GateName_14: -14; GateName_15: -15; GateName_16: -16; GateName_17: -17; GateName_18: -18; DeviceSetName: 39-30-?18?_S; SymbolName_3: P-N; SymbolName_4: P-N; SymbolName_5: P-N; SymbolName_6: P-N; SymbolName_7: P-N; SymbolName_8: P-N; SymbolName_9: P-N; SymbolName_10: P-N; SymbolName_11: P-N; SymbolName_12: P-N; SymbolName_13: P-N; SymbolName_14: P-N; SymbolName_15: P-N; SymbolName_16: P-N; SymbolName_17: P-N; SymbolName_18: P-N; LibraryName: con-molex-mini-fit; Package: 39-30-?18?
footprint 39-30-?18?
part A pins: 1 P
part B pins: 2 P
part C pins: 3 P
part D pins: 4 P
part E pins: 5 P
part F pins: 6 P
part G pins: 7 P
part H pins: 8 P
part I pins: 9 P
part J pins: 10 P
part K pins: 11 P
part L pins: 12 P
part M pins: 13 P
part N pins: 14 P
part O pins: 15 P
part P pins: 16 P
part Q pins: 17 P
part R pins: 18 P

## 39-30-?18?_S_17
designator P?, comment HEADER  (value not drawn)
GateName_1: -1; SymbolName_1: P-NV; GateName_2: -2; SymbolName_2: P-N; GateName_3: -3; GateName_4: -4; GateName_5: -5; GateName_6: -6; GateName_7: -7; GateName_8: -8; GateName_9: -9; GateName_10: -10; GateName_11: -11; GateName_12: -12; GateName_13: -13; GateName_14: -14; GateName_15: -15; GateName_16: -16; GateName_17: -17; GateName_18: -18; DeviceSetName: 39-30-?18?_S; SymbolName_3: P-N; SymbolName_4: P-N; SymbolName_5: P-N; SymbolName_6: P-N; SymbolName_7: P-N; SymbolName_8: P-N; SymbolName_9: P-N; SymbolName_10: P-N; SymbolName_11: P-N; SymbolName_12: P-N; SymbolName_13: P-N; SymbolName_14: P-N; SymbolName_15: P-N; SymbolName_16: P-N; SymbolName_17: P-N; SymbolName_18: P-N; LibraryName: con-molex-mini-fit; Package: 39-30-?18?
footprint 39-30-?18?
part A pins: 1 P
part B pins: 2 P
part C pins: 3 P
part D pins: 4 P
part E pins: 5 P
part F pins: 6 P
part G pins: 7 P
part H pins: 8 P
part I pins: 9 P
part J pins: 10 P
part K pins: 11 P
part L pins: 12 P
part M pins: 13 P
part N pins: 14 P
part O pins: 15 P
part P pins: 16 P
part Q pins: 17 P
part R pins: 18 P

## 39-30-?20?
designator P?, comment HEADER
GateName_1: G$1; SymbolName_1: MA10-2; DeviceSetName: 39-30-?20?; LibraryName: con-molex-mini-fit; Package: 39-30-?20?
footprint 39-30-?20?
pins: 1, 2, 3, 4, 5, 6, 7, 8, 9, 10, 11, 12, 13, 14, 15, 16, 17, 18, 19, 20

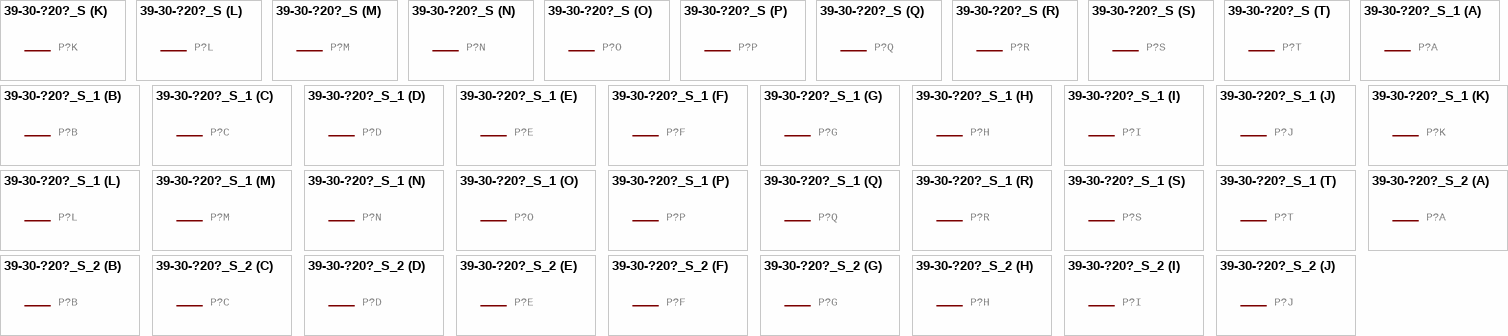
[diagram p29: symbols 39-30-?20?_S to 39-30-?20?_S_2]

## 39-30-?20?_S
designator P?, comment HEADER  (value not drawn)
GateName_1: -1; SymbolName_1: P-NV; GateName_2: -2; SymbolName_2: P-N; GateName_3: -3; GateName_4: -4; GateName_5: -5; GateName_6: -6; GateName_7: -7; GateName_8: -8; GateName_9: -9; GateName_10: -10; GateName_11: -11; GateName_12: -12; GateName_13: -13; GateName_14: -14; GateName_15: -15; GateName_16: -16; GateName_17: -17; GateName_18: -18; GateName_19: -19; GateName_20: -20; DeviceSetName: 39-30-?20?_S; SymbolName_3: P-N; SymbolName_4: P-N; SymbolName_5: P-N; SymbolName_6: P-N; SymbolName_7: P-N; SymbolName_8: P-N; SymbolName_9: P-N; SymbolName_10: P-N; SymbolName_11: P-N; SymbolName_12: P-N; SymbolName_13: P-N; SymbolName_14: P-N; SymbolName_15: P-N; SymbolName_16: P-N; SymbolName_17: P-N; SymbolName_18: P-N; SymbolName_19: P-N; SymbolName_20: P-N; LibraryName: con-molex-mini-fit; Package: 39-30-?20?
footprint 39-30-?20?
part A pins: 1 P
part B pins: 2 P
part C pins: 3 P
part D pins: 4 P
part E pins: 5 P
part F pins: 6 P
part G pins: 7 P
part H pins: 8 P
part I pins: 9 P
part J pins: 10 P
part K pins: 11 P
part L pins: 12 P
part M pins: 13 P
part N pins: 14 P
part O pins: 15 P
part P pins: 16 P
part Q pins: 17 P
part R pins: 18 P
part S pins: 19 P
part T pins: 20 P

## 39-30-?20?_S_1
designator P?, comment HEADER  (value not drawn)
GateName_1: -1; SymbolName_1: P-NV; GateName_2: -2; SymbolName_2: P-N; GateName_3: -3; GateName_4: -4; GateName_5: -5; GateName_6: -6; GateName_7: -7; GateName_8: -8; GateName_9: -9; GateName_10: -10; GateName_11: -11; GateName_12: -12; GateName_13: -13; GateName_14: -14; GateName_15: -15; GateName_16: -16; GateName_17: -17; GateName_18: -18; GateName_19: -19; GateName_20: -20; DeviceSetName: 39-30-?20?_S; SymbolName_3: P-N; SymbolName_4: P-N; SymbolName_5: P-N; SymbolName_6: P-N; SymbolName_7: P-N; SymbolName_8: P-N; SymbolName_9: P-N; SymbolName_10: P-N; SymbolName_11: P-N; SymbolName_12: P-N; SymbolName_13: P-N; SymbolName_14: P-N; SymbolName_15: P-N; SymbolName_16: P-N; SymbolName_17: P-N; SymbolName_18: P-N; SymbolName_19: P-N; SymbolName_20: P-N; LibraryName: con-molex-mini-fit; Package: 39-30-?20?
footprint 39-30-?20?
part A pins: 1 P
part B pins: 2 P
part C pins: 3 P
part D pins: 4 P
part E pins: 5 P
part F pins: 6 P
part G pins: 7 P
part H pins: 8 P
part I pins: 9 P
part J pins: 10 P
part K pins: 11 P
part L pins: 12 P
part M pins: 13 P
part N pins: 14 P
part O pins: 15 P
part P pins: 16 P
part Q pins: 17 P
part R pins: 18 P
part S pins: 19 P
part T pins: 20 P

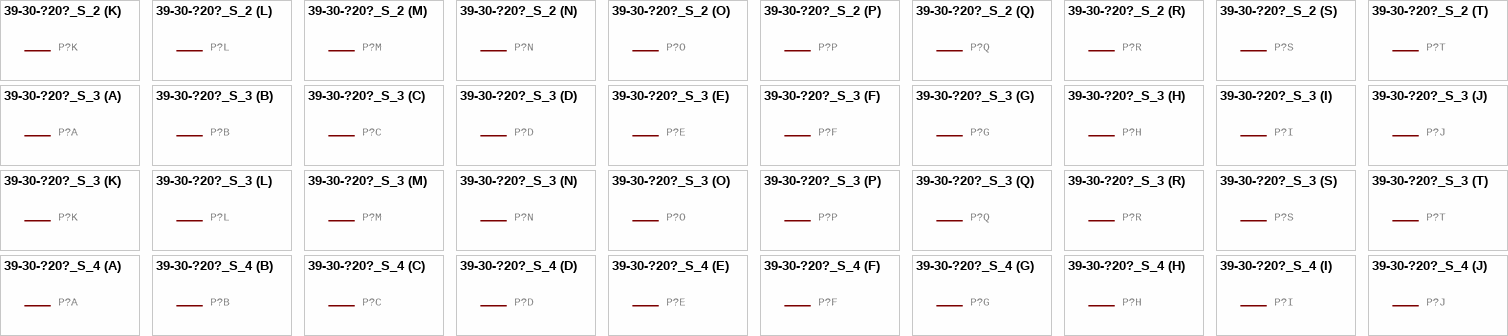
[diagram p30: symbols 39-30-?20?_S_2 to 39-30-?20?_S_4]

## 39-30-?20?_S_2
designator P?, comment HEADER  (value not drawn)
GateName_1: -1; SymbolName_1: P-NV; GateName_2: -2; SymbolName_2: P-N; GateName_3: -3; GateName_4: -4; GateName_5: -5; GateName_6: -6; GateName_7: -7; GateName_8: -8; GateName_9: -9; GateName_10: -10; GateName_11: -11; GateName_12: -12; GateName_13: -13; GateName_14: -14; GateName_15: -15; GateName_16: -16; GateName_17: -17; GateName_18: -18; GateName_19: -19; GateName_20: -20; DeviceSetName: 39-30-?20?_S; SymbolName_3: P-N; SymbolName_4: P-N; SymbolName_5: P-N; SymbolName_6: P-N; SymbolName_7: P-N; SymbolName_8: P-N; SymbolName_9: P-N; SymbolName_10: P-N; SymbolName_11: P-N; SymbolName_12: P-N; SymbolName_13: P-N; SymbolName_14: P-N; SymbolName_15: P-N; SymbolName_16: P-N; SymbolName_17: P-N; SymbolName_18: P-N; SymbolName_19: P-N; SymbolName_20: P-N; LibraryName: con-molex-mini-fit; Package: 39-30-?20?
footprint 39-30-?20?
part A pins: 1 P
part B pins: 2 P
part C pins: 3 P
part D pins: 4 P
part E pins: 5 P
part F pins: 6 P
part G pins: 7 P
part H pins: 8 P
part I pins: 9 P
part J pins: 10 P
part K pins: 11 P
part L pins: 12 P
part M pins: 13 P
part N pins: 14 P
part O pins: 15 P
part P pins: 16 P
part Q pins: 17 P
part R pins: 18 P
part S pins: 19 P
part T pins: 20 P

## 39-30-?20?_S_3
designator P?, comment HEADER  (value not drawn)
GateName_1: -1; SymbolName_1: P-NV; GateName_2: -2; SymbolName_2: P-N; GateName_3: -3; GateName_4: -4; GateName_5: -5; GateName_6: -6; GateName_7: -7; GateName_8: -8; GateName_9: -9; GateName_10: -10; GateName_11: -11; GateName_12: -12; GateName_13: -13; GateName_14: -14; GateName_15: -15; GateName_16: -16; GateName_17: -17; GateName_18: -18; GateName_19: -19; GateName_20: -20; DeviceSetName: 39-30-?20?_S; SymbolName_3: P-N; SymbolName_4: P-N; SymbolName_5: P-N; SymbolName_6: P-N; SymbolName_7: P-N; SymbolName_8: P-N; SymbolName_9: P-N; SymbolName_10: P-N; SymbolName_11: P-N; SymbolName_12: P-N; SymbolName_13: P-N; SymbolName_14: P-N; SymbolName_15: P-N; SymbolName_16: P-N; SymbolName_17: P-N; SymbolName_18: P-N; SymbolName_19: P-N; SymbolName_20: P-N; LibraryName: con-molex-mini-fit; Package: 39-30-?20?
footprint 39-30-?20?
part A pins: 1 P
part B pins: 2 P
part C pins: 3 P
part D pins: 4 P
part E pins: 5 P
part F pins: 6 P
part G pins: 7 P
part H pins: 8 P
part I pins: 9 P
part J pins: 10 P
part K pins: 11 P
part L pins: 12 P
part M pins: 13 P
part N pins: 14 P
part O pins: 15 P
part P pins: 16 P
part Q pins: 17 P
part R pins: 18 P
part S pins: 19 P
part T pins: 20 P

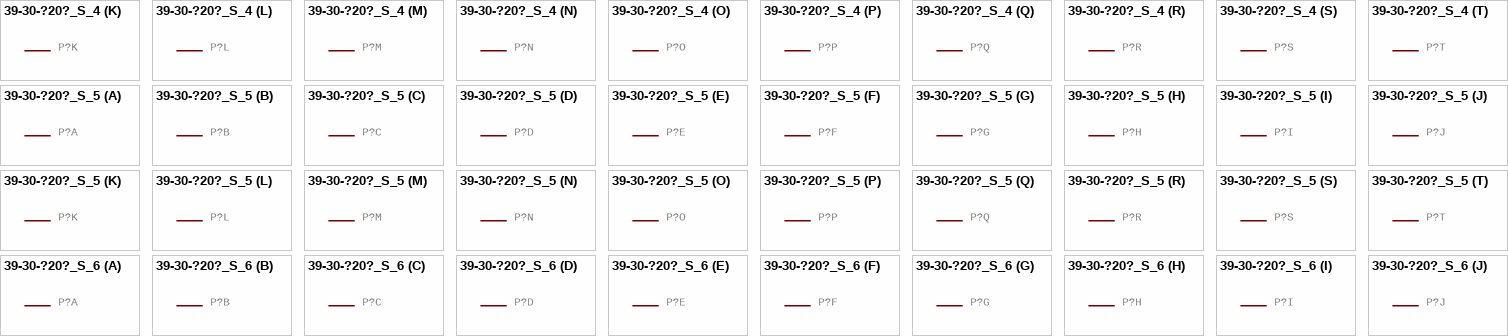
[diagram p31: symbols 39-30-?20?_S_4 to 39-30-?20?_S_6]

## 39-30-?20?_S_4
designator P?, comment HEADER  (value not drawn)
GateName_1: -1; SymbolName_1: P-NV; GateName_2: -2; SymbolName_2: P-N; GateName_3: -3; GateName_4: -4; GateName_5: -5; GateName_6: -6; GateName_7: -7; GateName_8: -8; GateName_9: -9; GateName_10: -10; GateName_11: -11; GateName_12: -12; GateName_13: -13; GateName_14: -14; GateName_15: -15; GateName_16: -16; GateName_17: -17; GateName_18: -18; GateName_19: -19; GateName_20: -20; DeviceSetName: 39-30-?20?_S; SymbolName_3: P-N; SymbolName_4: P-N; SymbolName_5: P-N; SymbolName_6: P-N; SymbolName_7: P-N; SymbolName_8: P-N; SymbolName_9: P-N; SymbolName_10: P-N; SymbolName_11: P-N; SymbolName_12: P-N; SymbolName_13: P-N; SymbolName_14: P-N; SymbolName_15: P-N; SymbolName_16: P-N; SymbolName_17: P-N; SymbolName_18: P-N; SymbolName_19: P-N; SymbolName_20: P-N; LibraryName: con-molex-mini-fit; Package: 39-30-?20?
footprint 39-30-?20?
part A pins: 1 P
part B pins: 2 P
part C pins: 3 P
part D pins: 4 P
part E pins: 5 P
part F pins: 6 P
part G pins: 7 P
part H pins: 8 P
part I pins: 9 P
part J pins: 10 P
part K pins: 11 P
part L pins: 12 P
part M pins: 13 P
part N pins: 14 P
part O pins: 15 P
part P pins: 16 P
part Q pins: 17 P
part R pins: 18 P
part S pins: 19 P
part T pins: 20 P

## 39-30-?20?_S_5
designator P?, comment HEADER  (value not drawn)
GateName_1: -1; SymbolName_1: P-NV; GateName_2: -2; SymbolName_2: P-N; GateName_3: -3; GateName_4: -4; GateName_5: -5; GateName_6: -6; GateName_7: -7; GateName_8: -8; GateName_9: -9; GateName_10: -10; GateName_11: -11; GateName_12: -12; GateName_13: -13; GateName_14: -14; GateName_15: -15; GateName_16: -16; GateName_17: -17; GateName_18: -18; GateName_19: -19; GateName_20: -20; DeviceSetName: 39-30-?20?_S; SymbolName_3: P-N; SymbolName_4: P-N; SymbolName_5: P-N; SymbolName_6: P-N; SymbolName_7: P-N; SymbolName_8: P-N; SymbolName_9: P-N; SymbolName_10: P-N; SymbolName_11: P-N; SymbolName_12: P-N; SymbolName_13: P-N; SymbolName_14: P-N; SymbolName_15: P-N; SymbolName_16: P-N; SymbolName_17: P-N; SymbolName_18: P-N; SymbolName_19: P-N; SymbolName_20: P-N; LibraryName: con-molex-mini-fit; Package: 39-30-?20?
footprint 39-30-?20?
part A pins: 1 P
part B pins: 2 P
part C pins: 3 P
part D pins: 4 P
part E pins: 5 P
part F pins: 6 P
part G pins: 7 P
part H pins: 8 P
part I pins: 9 P
part J pins: 10 P
part K pins: 11 P
part L pins: 12 P
part M pins: 13 P
part N pins: 14 P
part O pins: 15 P
part P pins: 16 P
part Q pins: 17 P
part R pins: 18 P
part S pins: 19 P
part T pins: 20 P

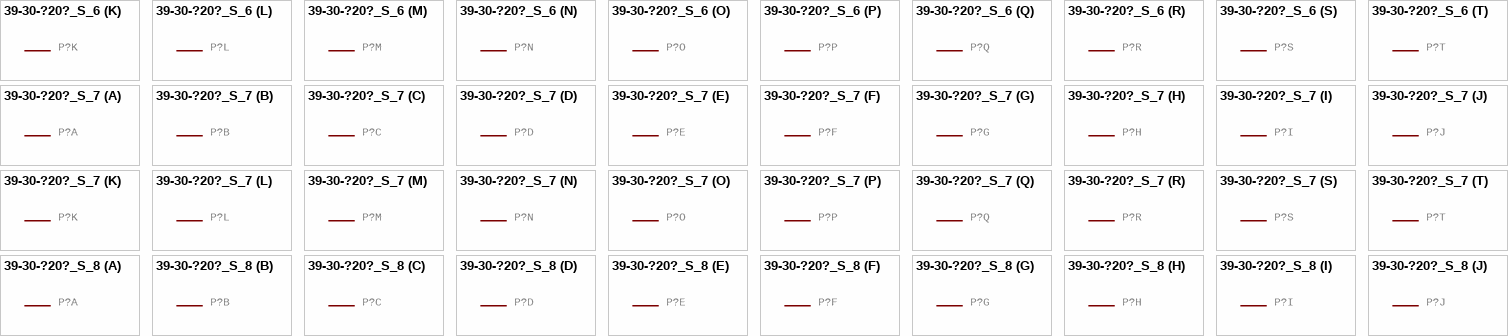
[diagram p32: symbols 39-30-?20?_S_6 to 39-30-?20?_S_8]

## 39-30-?20?_S_6
designator P?, comment HEADER  (value not drawn)
GateName_1: -1; SymbolName_1: P-NV; GateName_2: -2; SymbolName_2: P-N; GateName_3: -3; GateName_4: -4; GateName_5: -5; GateName_6: -6; GateName_7: -7; GateName_8: -8; GateName_9: -9; GateName_10: -10; GateName_11: -11; GateName_12: -12; GateName_13: -13; GateName_14: -14; GateName_15: -15; GateName_16: -16; GateName_17: -17; GateName_18: -18; GateName_19: -19; GateName_20: -20; DeviceSetName: 39-30-?20?_S; SymbolName_3: P-N; SymbolName_4: P-N; SymbolName_5: P-N; SymbolName_6: P-N; SymbolName_7: P-N; SymbolName_8: P-N; SymbolName_9: P-N; SymbolName_10: P-N; SymbolName_11: P-N; SymbolName_12: P-N; SymbolName_13: P-N; SymbolName_14: P-N; SymbolName_15: P-N; SymbolName_16: P-N; SymbolName_17: P-N; SymbolName_18: P-N; SymbolName_19: P-N; SymbolName_20: P-N; LibraryName: con-molex-mini-fit; Package: 39-30-?20?
footprint 39-30-?20?
part A pins: 1 P
part B pins: 2 P
part C pins: 3 P
part D pins: 4 P
part E pins: 5 P
part F pins: 6 P
part G pins: 7 P
part H pins: 8 P
part I pins: 9 P
part J pins: 10 P
part K pins: 11 P
part L pins: 12 P
part M pins: 13 P
part N pins: 14 P
part O pins: 15 P
part P pins: 16 P
part Q pins: 17 P
part R pins: 18 P
part S pins: 19 P
part T pins: 20 P

## 39-30-?20?_S_7
designator P?, comment HEADER  (value not drawn)
GateName_1: -1; SymbolName_1: P-NV; GateName_2: -2; SymbolName_2: P-N; GateName_3: -3; GateName_4: -4; GateName_5: -5; GateName_6: -6; GateName_7: -7; GateName_8: -8; GateName_9: -9; GateName_10: -10; GateName_11: -11; GateName_12: -12; GateName_13: -13; GateName_14: -14; GateName_15: -15; GateName_16: -16; GateName_17: -17; GateName_18: -18; GateName_19: -19; GateName_20: -20; DeviceSetName: 39-30-?20?_S; SymbolName_3: P-N; SymbolName_4: P-N; SymbolName_5: P-N; SymbolName_6: P-N; SymbolName_7: P-N; SymbolName_8: P-N; SymbolName_9: P-N; SymbolName_10: P-N; SymbolName_11: P-N; SymbolName_12: P-N; SymbolName_13: P-N; SymbolName_14: P-N; SymbolName_15: P-N; SymbolName_16: P-N; SymbolName_17: P-N; SymbolName_18: P-N; SymbolName_19: P-N; SymbolName_20: P-N; LibraryName: con-molex-mini-fit; Package: 39-30-?20?
footprint 39-30-?20?
part A pins: 1 P
part B pins: 2 P
part C pins: 3 P
part D pins: 4 P
part E pins: 5 P
part F pins: 6 P
part G pins: 7 P
part H pins: 8 P
part I pins: 9 P
part J pins: 10 P
part K pins: 11 P
part L pins: 12 P
part M pins: 13 P
part N pins: 14 P
part O pins: 15 P
part P pins: 16 P
part Q pins: 17 P
part R pins: 18 P
part S pins: 19 P
part T pins: 20 P

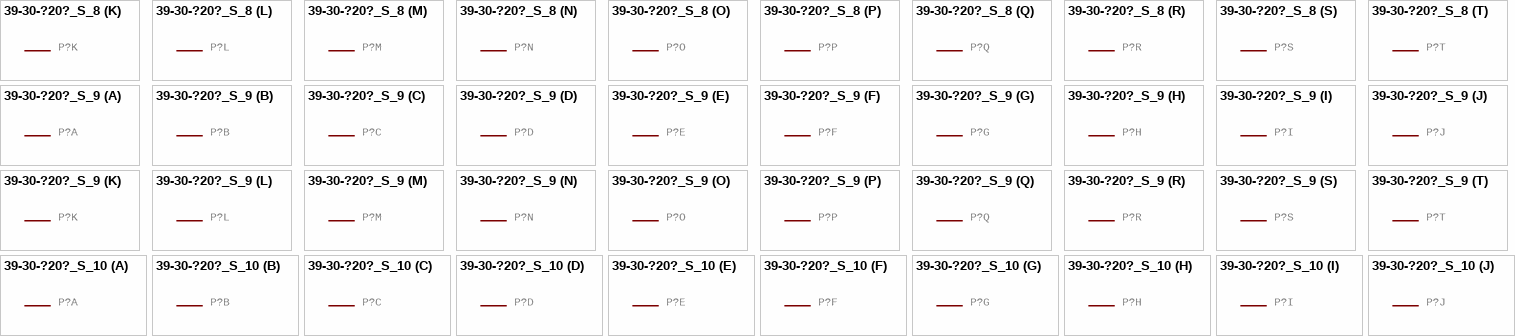
[diagram p33: symbols 39-30-?20?_S_8 to 39-30-?20?_S_10]

## 39-30-?20?_S_8
designator P?, comment HEADER  (value not drawn)
GateName_1: -1; SymbolName_1: P-NV; GateName_2: -2; SymbolName_2: P-N; GateName_3: -3; GateName_4: -4; GateName_5: -5; GateName_6: -6; GateName_7: -7; GateName_8: -8; GateName_9: -9; GateName_10: -10; GateName_11: -11; GateName_12: -12; GateName_13: -13; GateName_14: -14; GateName_15: -15; GateName_16: -16; GateName_17: -17; GateName_18: -18; GateName_19: -19; GateName_20: -20; DeviceSetName: 39-30-?20?_S; SymbolName_3: P-N; SymbolName_4: P-N; SymbolName_5: P-N; SymbolName_6: P-N; SymbolName_7: P-N; SymbolName_8: P-N; SymbolName_9: P-N; SymbolName_10: P-N; SymbolName_11: P-N; SymbolName_12: P-N; SymbolName_13: P-N; SymbolName_14: P-N; SymbolName_15: P-N; SymbolName_16: P-N; SymbolName_17: P-N; SymbolName_18: P-N; SymbolName_19: P-N; SymbolName_20: P-N; LibraryName: con-molex-mini-fit; Package: 39-30-?20?
footprint 39-30-?20?
part A pins: 1 P
part B pins: 2 P
part C pins: 3 P
part D pins: 4 P
part E pins: 5 P
part F pins: 6 P
part G pins: 7 P
part H pins: 8 P
part I pins: 9 P
part J pins: 10 P
part K pins: 11 P
part L pins: 12 P
part M pins: 13 P
part N pins: 14 P
part O pins: 15 P
part P pins: 16 P
part Q pins: 17 P
part R pins: 18 P
part S pins: 19 P
part T pins: 20 P

## 39-30-?20?_S_9
designator P?, comment HEADER  (value not drawn)
GateName_1: -1; SymbolName_1: P-NV; GateName_2: -2; SymbolName_2: P-N; GateName_3: -3; GateName_4: -4; GateName_5: -5; GateName_6: -6; GateName_7: -7; GateName_8: -8; GateName_9: -9; GateName_10: -10; GateName_11: -11; GateName_12: -12; GateName_13: -13; GateName_14: -14; GateName_15: -15; GateName_16: -16; GateName_17: -17; GateName_18: -18; GateName_19: -19; GateName_20: -20; DeviceSetName: 39-30-?20?_S; SymbolName_3: P-N; SymbolName_4: P-N; SymbolName_5: P-N; SymbolName_6: P-N; SymbolName_7: P-N; SymbolName_8: P-N; SymbolName_9: P-N; SymbolName_10: P-N; SymbolName_11: P-N; SymbolName_12: P-N; SymbolName_13: P-N; SymbolName_14: P-N; SymbolName_15: P-N; SymbolName_16: P-N; SymbolName_17: P-N; SymbolName_18: P-N; SymbolName_19: P-N; SymbolName_20: P-N; LibraryName: con-molex-mini-fit; Package: 39-30-?20?
footprint 39-30-?20?
part A pins: 1 P
part B pins: 2 P
part C pins: 3 P
part D pins: 4 P
part E pins: 5 P
part F pins: 6 P
part G pins: 7 P
part H pins: 8 P
part I pins: 9 P
part J pins: 10 P
part K pins: 11 P
part L pins: 12 P
part M pins: 13 P
part N pins: 14 P
part O pins: 15 P
part P pins: 16 P
part Q pins: 17 P
part R pins: 18 P
part S pins: 19 P
part T pins: 20 P

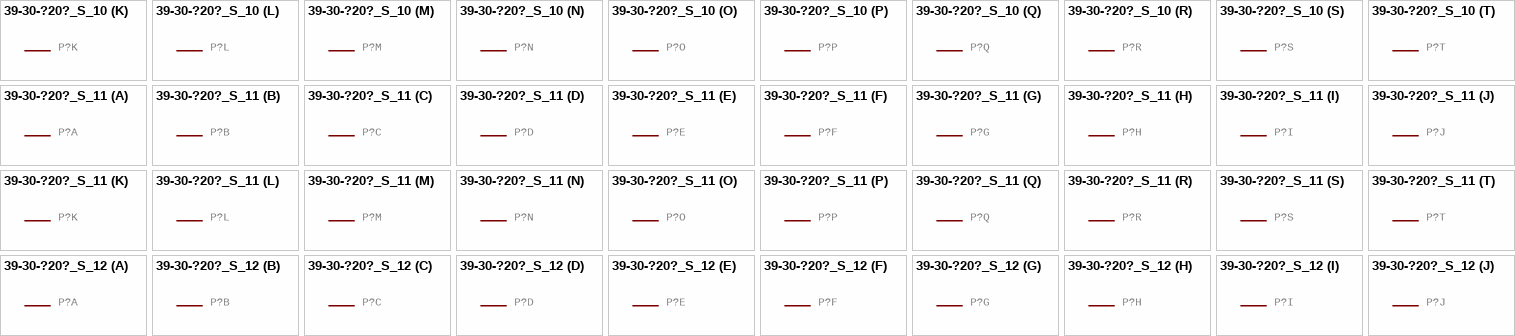
[diagram p34: symbols 39-30-?20?_S_10 to 39-30-?20?_S_12]

## 39-30-?20?_S_10
designator P?, comment HEADER  (value not drawn)
GateName_1: -1; SymbolName_1: P-NV; GateName_2: -2; SymbolName_2: P-N; GateName_3: -3; GateName_4: -4; GateName_5: -5; GateName_6: -6; GateName_7: -7; GateName_8: -8; GateName_9: -9; GateName_10: -10; GateName_11: -11; GateName_12: -12; GateName_13: -13; GateName_14: -14; GateName_15: -15; GateName_16: -16; GateName_17: -17; GateName_18: -18; GateName_19: -19; GateName_20: -20; DeviceSetName: 39-30-?20?_S; SymbolName_3: P-N; SymbolName_4: P-N; SymbolName_5: P-N; SymbolName_6: P-N; SymbolName_7: P-N; SymbolName_8: P-N; SymbolName_9: P-N; SymbolName_10: P-N; SymbolName_11: P-N; SymbolName_12: P-N; SymbolName_13: P-N; SymbolName_14: P-N; SymbolName_15: P-N; SymbolName_16: P-N; SymbolName_17: P-N; SymbolName_18: P-N; SymbolName_19: P-N; SymbolName_20: P-N; LibraryName: con-molex-mini-fit; Package: 39-30-?20?
footprint 39-30-?20?
part A pins: 1 P
part B pins: 2 P
part C pins: 3 P
part D pins: 4 P
part E pins: 5 P
part F pins: 6 P
part G pins: 7 P
part H pins: 8 P
part I pins: 9 P
part J pins: 10 P
part K pins: 11 P
part L pins: 12 P
part M pins: 13 P
part N pins: 14 P
part O pins: 15 P
part P pins: 16 P
part Q pins: 17 P
part R pins: 18 P
part S pins: 19 P
part T pins: 20 P

## 39-30-?20?_S_11
designator P?, comment HEADER  (value not drawn)
GateName_1: -1; SymbolName_1: P-NV; GateName_2: -2; SymbolName_2: P-N; GateName_3: -3; GateName_4: -4; GateName_5: -5; GateName_6: -6; GateName_7: -7; GateName_8: -8; GateName_9: -9; GateName_10: -10; GateName_11: -11; GateName_12: -12; GateName_13: -13; GateName_14: -14; GateName_15: -15; GateName_16: -16; GateName_17: -17; GateName_18: -18; GateName_19: -19; GateName_20: -20; DeviceSetName: 39-30-?20?_S; SymbolName_3: P-N; SymbolName_4: P-N; SymbolName_5: P-N; SymbolName_6: P-N; SymbolName_7: P-N; SymbolName_8: P-N; SymbolName_9: P-N; SymbolName_10: P-N; SymbolName_11: P-N; SymbolName_12: P-N; SymbolName_13: P-N; SymbolName_14: P-N; SymbolName_15: P-N; SymbolName_16: P-N; SymbolName_17: P-N; SymbolName_18: P-N; SymbolName_19: P-N; SymbolName_20: P-N; LibraryName: con-molex-mini-fit; Package: 39-30-?20?
footprint 39-30-?20?
part A pins: 1 P
part B pins: 2 P
part C pins: 3 P
part D pins: 4 P
part E pins: 5 P
part F pins: 6 P
part G pins: 7 P
part H pins: 8 P
part I pins: 9 P
part J pins: 10 P
part K pins: 11 P
part L pins: 12 P
part M pins: 13 P
part N pins: 14 P
part O pins: 15 P
part P pins: 16 P
part Q pins: 17 P
part R pins: 18 P
part S pins: 19 P
part T pins: 20 P

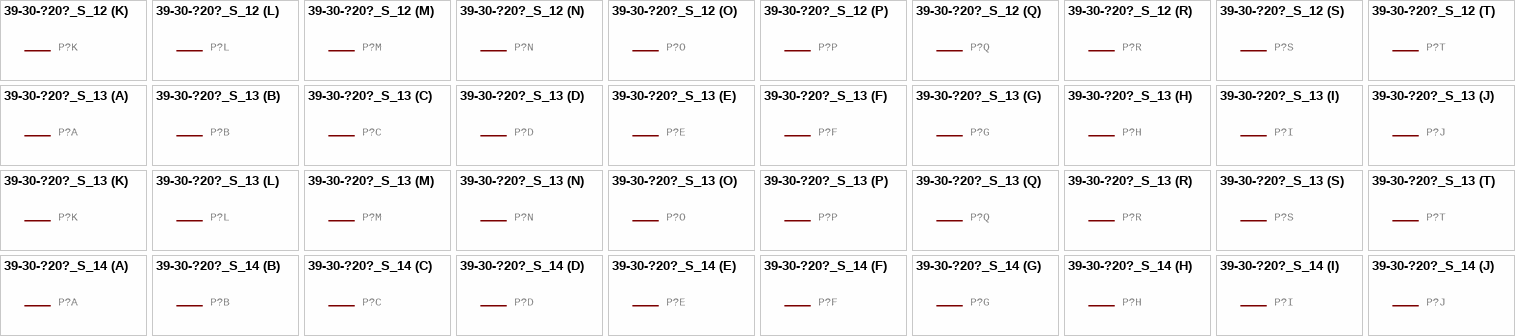
[diagram p35: symbols 39-30-?20?_S_12 to 39-30-?20?_S_14]

## 39-30-?20?_S_12
designator P?, comment HEADER  (value not drawn)
GateName_1: -1; SymbolName_1: P-NV; GateName_2: -2; SymbolName_2: P-N; GateName_3: -3; GateName_4: -4; GateName_5: -5; GateName_6: -6; GateName_7: -7; GateName_8: -8; GateName_9: -9; GateName_10: -10; GateName_11: -11; GateName_12: -12; GateName_13: -13; GateName_14: -14; GateName_15: -15; GateName_16: -16; GateName_17: -17; GateName_18: -18; GateName_19: -19; GateName_20: -20; DeviceSetName: 39-30-?20?_S; SymbolName_3: P-N; SymbolName_4: P-N; SymbolName_5: P-N; SymbolName_6: P-N; SymbolName_7: P-N; SymbolName_8: P-N; SymbolName_9: P-N; SymbolName_10: P-N; SymbolName_11: P-N; SymbolName_12: P-N; SymbolName_13: P-N; SymbolName_14: P-N; SymbolName_15: P-N; SymbolName_16: P-N; SymbolName_17: P-N; SymbolName_18: P-N; SymbolName_19: P-N; SymbolName_20: P-N; LibraryName: con-molex-mini-fit; Package: 39-30-?20?
footprint 39-30-?20?
part A pins: 1 P
part B pins: 2 P
part C pins: 3 P
part D pins: 4 P
part E pins: 5 P
part F pins: 6 P
part G pins: 7 P
part H pins: 8 P
part I pins: 9 P
part J pins: 10 P
part K pins: 11 P
part L pins: 12 P
part M pins: 13 P
part N pins: 14 P
part O pins: 15 P
part P pins: 16 P
part Q pins: 17 P
part R pins: 18 P
part S pins: 19 P
part T pins: 20 P

## 39-30-?20?_S_13
designator P?, comment HEADER  (value not drawn)
GateName_1: -1; SymbolName_1: P-NV; GateName_2: -2; SymbolName_2: P-N; GateName_3: -3; GateName_4: -4; GateName_5: -5; GateName_6: -6; GateName_7: -7; GateName_8: -8; GateName_9: -9; GateName_10: -10; GateName_11: -11; GateName_12: -12; GateName_13: -13; GateName_14: -14; GateName_15: -15; GateName_16: -16; GateName_17: -17; GateName_18: -18; GateName_19: -19; GateName_20: -20; DeviceSetName: 39-30-?20?_S; SymbolName_3: P-N; SymbolName_4: P-N; SymbolName_5: P-N; SymbolName_6: P-N; SymbolName_7: P-N; SymbolName_8: P-N; SymbolName_9: P-N; SymbolName_10: P-N; SymbolName_11: P-N; SymbolName_12: P-N; SymbolName_13: P-N; SymbolName_14: P-N; SymbolName_15: P-N; SymbolName_16: P-N; SymbolName_17: P-N; SymbolName_18: P-N; SymbolName_19: P-N; SymbolName_20: P-N; LibraryName: con-molex-mini-fit; Package: 39-30-?20?
footprint 39-30-?20?
part A pins: 1 P
part B pins: 2 P
part C pins: 3 P
part D pins: 4 P
part E pins: 5 P
part F pins: 6 P
part G pins: 7 P
part H pins: 8 P
part I pins: 9 P
part J pins: 10 P
part K pins: 11 P
part L pins: 12 P
part M pins: 13 P
part N pins: 14 P
part O pins: 15 P
part P pins: 16 P
part Q pins: 17 P
part R pins: 18 P
part S pins: 19 P
part T pins: 20 P

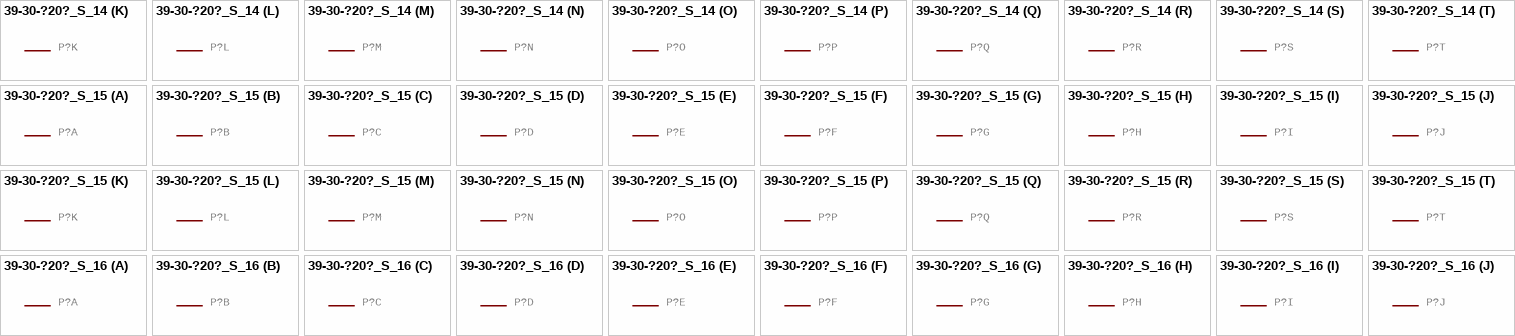
[diagram p36: symbols 39-30-?20?_S_14 to 39-30-?20?_S_16]